# Altium integrated library NSC Communication Transceiver.IntLib: 31 symbols
Pins are listed as number, name and electrical type; pins without a type are passive.

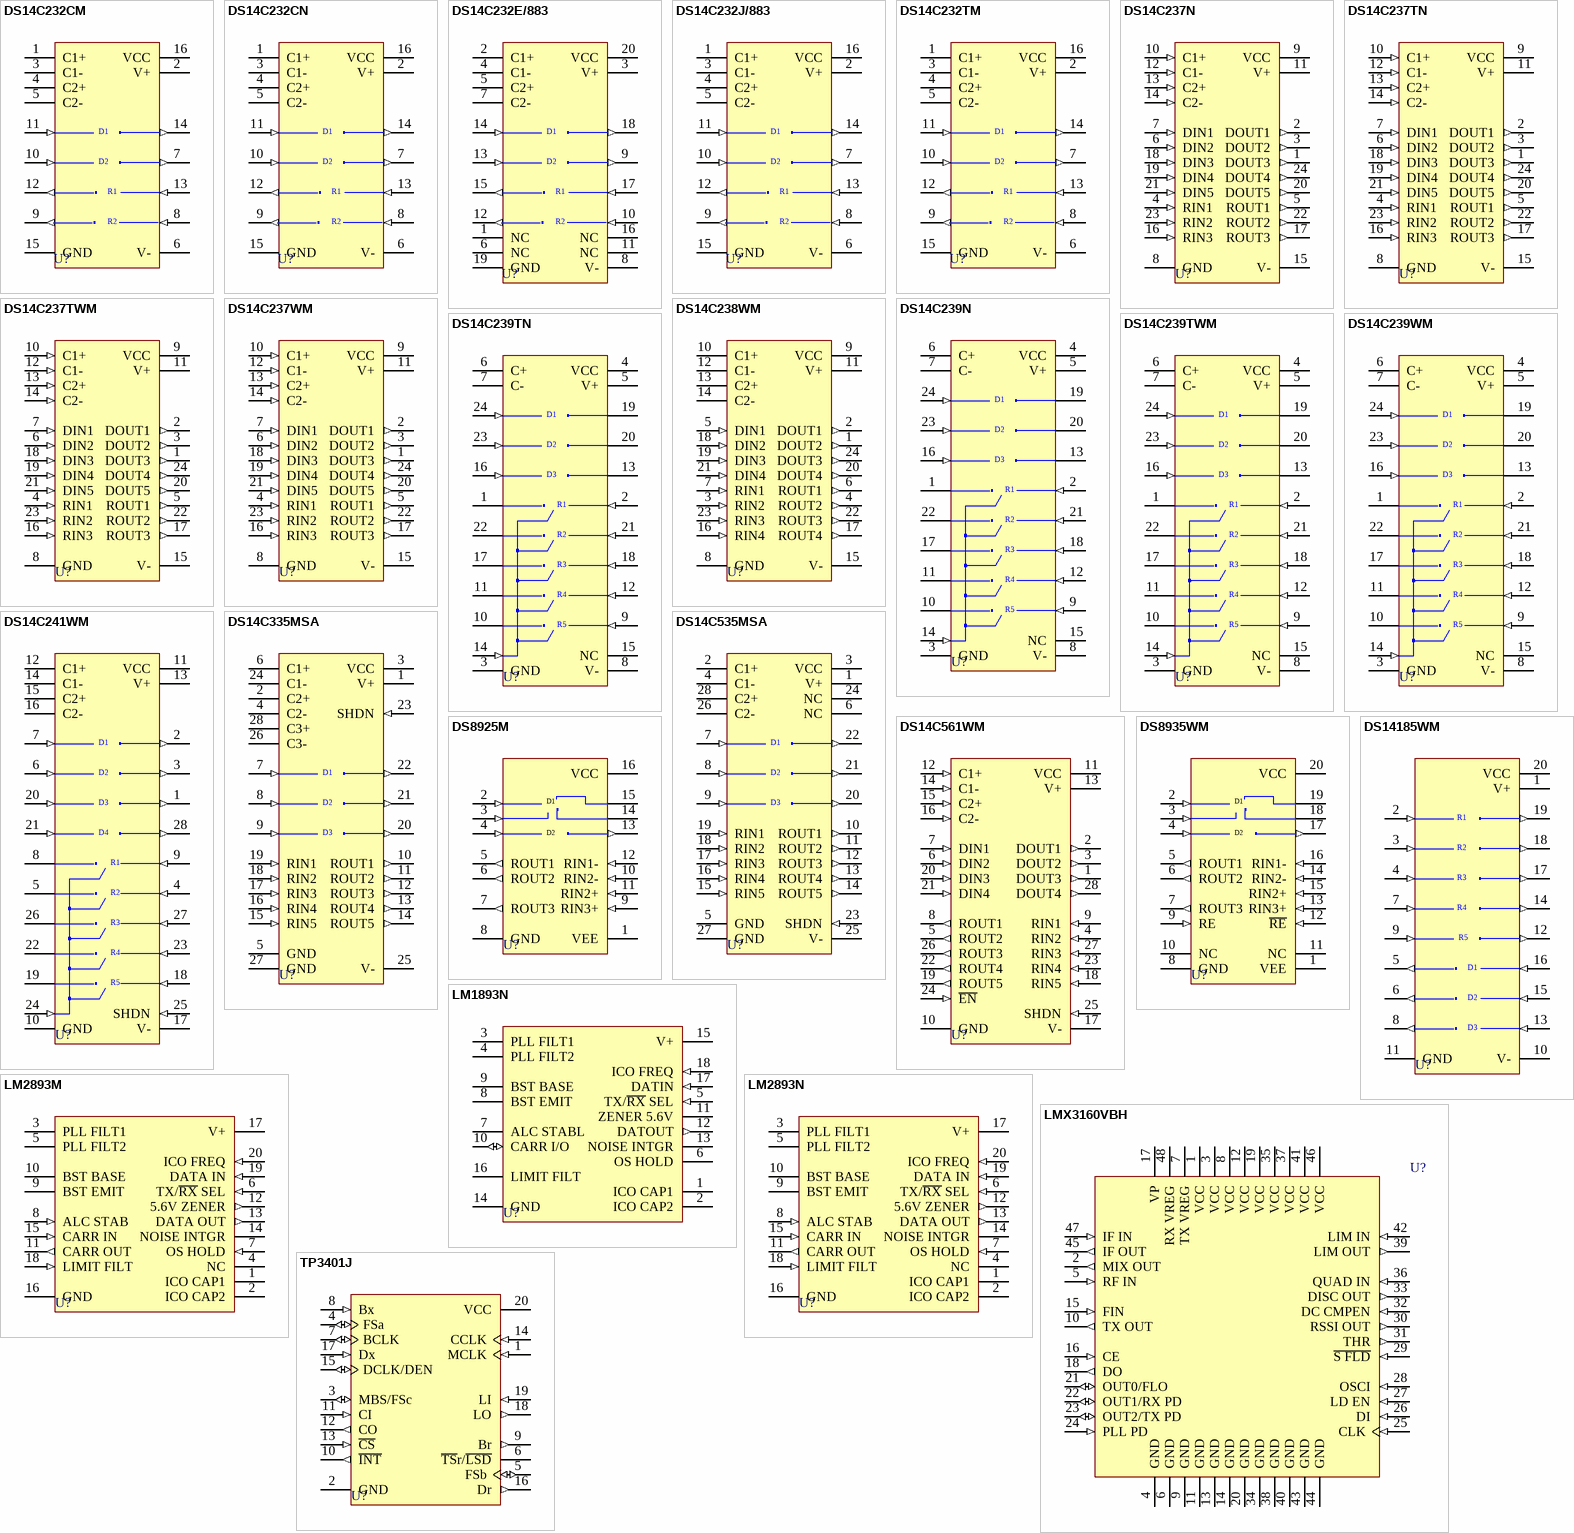
[diagram p0: symbols DS14C232CM to TP3401J]

## DS14C232CM
designator U?
Low-Power +5V Powered TIA/EIA-232 Dual Driver/Receiver; Published: 15-Apr-2002; LatestRevisionDate: 13-Apr-2006; LatestRevisionNote: IPC-7351 Footprint Added.; DatasheetVersion: Oct-1999; PackageVersion: 2000; PackageReference: M16A; Publisher: Altium Limited; PackageDescription: 16-Pin Small Outline Integrated Circuit 1.27 mm Pitch; Code_IPC: SOIC127P600-16; ComponentLink1Description: Manufacturer Link; ComponentLink1URL: http://www.national.com/; ComponentLink2Description: Datasheet; ComponentLink2URL: http://www.national.com/ds.cgi/DS/DS14C232.pdf; ComponentLink3Description: URL Link1; ComponentLink3URL: http://www.national.com/pf/DS/DS14C232.html
footprint M16A_N (SOIC, 16-Leads, Body 9.9x3.9mm, Pitch 1.27mm, IPC Medium Density)
footprint M16A_L (SOIC, 16-Leads, Body 9.9x3.9mm, Pitch 1.27mm, IPC High Density)
footprint M16A_M (SOIC, 16-Leads, Body 9.9x3.9mm, Pitch 1.27mm, IPC Low Density)
3D model M16A (16-Pin Small Outline Integrated Circuit 1.27 mm Pitch)
pins: 1 C1+, 2 V+ (power), 3 C1-, 4 C2+, 5 C2-, 6 V- (power), 7 DOUT (out), 8 RIN (in), 9 ROUT (out), 10 DIN (in), 11 DIN (in), 12 ROUT (out), 13 RIN (in), 14 DOUT (out), 15 GND (power), 16 VCC (power)
text: D1; D2; R1; R2

## DS14C232CN
designator U?
Low-Power +5V Powered TIA/EIA-232 Dual Driver/Receiver; Published: 15-Apr-2002; LatestRevisionDate: 06-Jun-2005; LatestRevisionNote: Stylized 3D Model Added.; DatasheetVersion: Oct-1999; PackageVersion: 2000; PackageReference: N16E; Publisher: Altium Limited; PackageDescription: DIP; 16 Leads; Row Spacing 7.62 mm; Pitch 2.54 mm; ComponentLink1Description: Manufacturer Link; ComponentLink1URL: http://www.national.com/; ComponentLink2Description: Datasheet; ComponentLink2URL: http://www.national.com/ds.cgi/DS/DS14C232.pdf; ComponentLink3Description: URL Link1; ComponentLink3URL: http://www.national.com/pf/DS/DS14C232.html
footprint N16E (DIP; 16 Leads; Row Spacing 7.62 mm; Pitch 2.54 mm)
3D model N16E (DIP; 16 Leads; Row Spacing 7.62 mm; Pitch 2.54 mm)
pins: 1 C1+, 2 V+ (power), 3 C1-, 4 C2+, 5 C2-, 6 V- (power), 7 DOUT (out), 8 RIN (in), 9 ROUT (out), 10 DIN (in), 11 DIN (in), 12 ROUT (out), 13 RIN (in), 14 DOUT (out), 15 GND (power), 16 VCC (power)
text: D1; D2; R1; R2

## DS14C232E/883
designator U?
Low-Power +5V Powered TIA/EIA-232 Dual Driver/Receiver; Published: 15-Apr-2002; DatasheetVersion: Oct-1999; PackageVersion: 2000; PackageReference: E20A; Publisher: Altium Limited; PackageDescription: Leadless Chip Carrier; 20 Terminals; Body 8.9 x 8.9 mm; ComponentLink1Description: Manufacturer Link; ComponentLink1URL: http://www.national.com/; ComponentLink2Description: Datasheet; ComponentLink2URL: http://www.national.com/ds.cgi/DS/DS14C232.pdf; ComponentLink3Description: URL Link1; ComponentLink3URL: http://www.national.com/pf/DS/DS14C232.html
footprint E20A (Leadless Chip Carrier; 20 Terminals; Body 8.9 x 8.9 mm)
pins: 1 NC, 2 C1+, 3 V+ (power), 4 C1-, 5 C2+, 6 NC, 7 C2-, 8 V- (power), 9 DOUT (out), 10 RIN (in), 11 NC, 12 ROUT (out), 13 DIN (in), 14 DIN (in), 15 ROUT (out), 16 NC, 17 RIN (in), 18 DOUT (out), 19 GND (power), 20 VCC (power)
text: D1; D2; R1; R2

## DS14C232J/883
designator U?
Low-Power +5V Powered TIA/EIA-232 Dual Driver/Receiver; Published: 15-Apr-2002; LatestRevisionDate: 06-Jun-2005; LatestRevisionNote: Stylized 3D Model Added.; DatasheetVersion: Oct-1999; PackageVersion: 2000; PackageReference: J16A; Publisher: Altium Limited; PackageDescription: DIP; 16 Leads; Row Spacing 7.62 mm; Pitch 2.54 mm; ComponentLink1Description: Manufacturer Link; ComponentLink1URL: http://www.national.com/; ComponentLink2Description: Datasheet; ComponentLink2URL: http://www.national.com/ds.cgi/DS/DS14C232.pdf; ComponentLink3Description: URL Link1; ComponentLink3URL: http://www.national.com/pf/DS/DS14C232.html
footprint J16A (DIP; 16 Leads; Row Spacing 7.62 mm; Pitch 2.54 mm)
3D model N16E (DIP; 16 Leads; Row Spacing 7.62 mm; Pitch 2.54 mm)
pins: 1 C1+, 2 V+ (power), 3 C1-, 4 C2+, 5 C2-, 6 V- (power), 7 DOUT (out), 8 RIN (in), 9 ROUT (out), 10 DIN (in), 11 DIN (in), 12 ROUT (out), 13 RIN (in), 14 DOUT (out), 15 GND (power), 16 VCC (power)
text: D1; D2; R1; R2

## DS14C232TM
designator U?
Low-Power +5V Powered TIA/EIA-232 Dual Driver/Receiver; Published: 15-Apr-2002; LatestRevisionDate: 13-Apr-2006; LatestRevisionNote: IPC-7351 Footprint Added.; DatasheetVersion: Oct-1999; PackageVersion: 2000; PackageReference: M16A; Publisher: Altium Limited; PackageDescription: 16-Pin Small Outline Integrated Circuit 1.27 mm Pitch; Code_IPC: SOIC127P600-16; ComponentLink1Description: Manufacturer Link; ComponentLink1URL: http://www.national.com/; ComponentLink2Description: Datasheet; ComponentLink2URL: http://www.national.com/ds.cgi/DS/DS14C232.pdf; ComponentLink3Description: URL Link1; ComponentLink3URL: http://www.national.com/pf/DS/DS14C232.html
footprint M16A_N (SOIC, 16-Leads, Body 9.9x3.9mm, Pitch 1.27mm, IPC Medium Density)
footprint M16A_L (SOIC, 16-Leads, Body 9.9x3.9mm, Pitch 1.27mm, IPC High Density)
footprint M16A_M (SOIC, 16-Leads, Body 9.9x3.9mm, Pitch 1.27mm, IPC Low Density)
3D model M16A (16-Pin Small Outline Integrated Circuit 1.27 mm Pitch)
pins: 1 C1+, 2 V+ (power), 3 C1-, 4 C2+, 5 C2-, 6 V- (power), 7 DOUT (out), 8 RIN (in), 9 ROUT (out), 10 DIN (in), 11 DIN (in), 12 ROUT (out), 13 RIN (in), 14 DOUT (out), 15 GND (power), 16 VCC (power)
text: D1; D2; R1; R2

## DS14C237N
designator U?
Single-Supply TIA/EIA-232 5 X 3 Driver/Receiver; Published: 15-Apr-2002; LatestRevisionDate: 06-Jun-2005; LatestRevisionNote: Stylized 3D Model Added.; DatasheetVersion: 1996; PackageVersion: 1996; PackageReference: NA24G; Publisher: Altium Limited; PackageDescription: DIP; 24 Leads; Row Spacing 7.62 mm; Pitch 2.54 mm; ComponentLink1Description: Manufacturer Link; ComponentLink1URL: http://www.national.com/
footprint NA24G (DIP; 24 Leads; Row Spacing 7.62 mm; Pitch 2.54 mm)
3D model NA24G (DIP; 24 Leads; Row Spacing 7.62 mm; Pitch 2.54 mm)
pins: 1 DOUT3 (out), 2 DOUT1 (out), 3 DOUT2 (out), 4 RIN1 (in), 5 ROUT1 (out), 6 DIN2 (in), 7 DIN1 (in), 8 GND (power), 9 VCC (power), 10 C1+ (in), 11 V+ (power), 12 C1- (in), 13 C2+ (in), 14 C2- (in), 15 V- (power), 16 RIN3 (in), 17 ROUT3 (out), 18 DIN3 (in), 19 DIN4 (in), 20 DOUT5 (out), 21 DIN5 (in), 22 ROUT2 (out), 23 RIN2 (in), 24 DOUT4 (out)

## DS14C237TN
designator U?
Single-Supply TIA/EIA-232 5 X 3 Driver/Receiver; Published: 15-Apr-2002; LatestRevisionDate: 06-Jun-2005; LatestRevisionNote: Stylized 3D Model Added.; DatasheetVersion: 1996; PackageVersion: 1996; PackageReference: NA24G; Publisher: Altium Limited; PackageDescription: DIP; 24 Leads; Row Spacing 7.62 mm; Pitch 2.54 mm; ComponentLink1Description: Manufacturer Link; ComponentLink1URL: http://www.national.com/
footprint NA24G (DIP; 24 Leads; Row Spacing 7.62 mm; Pitch 2.54 mm)
3D model NA24G (DIP; 24 Leads; Row Spacing 7.62 mm; Pitch 2.54 mm)
pins: 1 DOUT3 (out), 2 DOUT1 (out), 3 DOUT2 (out), 4 RIN1 (in), 5 ROUT1 (out), 6 DIN2 (in), 7 DIN1 (in), 8 GND (power), 9 VCC (power), 10 C1+ (in), 11 V+ (power), 12 C1- (in), 13 C2+ (in), 14 C2- (in), 15 V- (power), 16 RIN3 (in), 17 ROUT3 (out), 18 DIN3 (in), 19 DIN4 (in), 20 DOUT5 (out), 21 DIN5 (in), 22 ROUT2 (out), 23 RIN2 (in), 24 DOUT4 (out)

## DS14C237TWM
designator U?
Single-Supply TIA/EIA-232 5 X 3 Driver/Receiver; ComponentAvailability: Obsolete; Published: 15-Apr-2002; LatestRevisionDate: 13-Apr-2006; LatestRevisionNote: IPC-7351 Footprint Added.; DatasheetVersion: 1996; PackageVersion: 2000; PackageReference: M24B; Publisher: Altium Limited; PackageDescription: 24-Pin Small Outline Integrated Circuit 1.27 mm Pitch; ComponentLink1Description: Manufacturer Link; ComponentLink1URL: http://www.national.com/; ComponentLink2Description: Discontinuation Notice; ComponentLink2URL: http://www.national.com/obs/obsolescence.txt
footprint M24B_N (SOIC, 24-Leads, Body 15.4x7.5mm, Pitch 1.27mm, IPC Medium Density)
footprint M24B_L (SOIC, 24-Leads, Body 15.4x7.5mm, Pitch 1.27mm, IPC High Density)
footprint M24B_M (SOIC, 24-Leads, Body 15.4x7.5mm, Pitch 1.27mm, IPC Low Density)
3D model M24B (24-Pin Small Outline Integrated Circuit 1.27 mm Pitch)
pins: 1 DOUT3 (out), 2 DOUT1 (out), 3 DOUT2 (out), 4 RIN1 (in), 5 ROUT1 (out), 6 DIN2 (in), 7 DIN1 (in), 8 GND (power), 9 VCC (power), 10 C1+ (in), 11 V+ (power), 12 C1- (in), 13 C2+ (in), 14 C2- (in), 15 V- (power), 16 RIN3 (in), 17 ROUT3 (out), 18 DIN3 (in), 19 DIN4 (in), 20 DOUT5 (out), 21 DIN5 (in), 22 ROUT2 (out), 23 RIN2 (in), 24 DOUT4 (out)

## DS14C237WM
designator U?
Single-Supply TIA/EIA-232 5 X 3 Driver/Receiver; ComponentAvailability: Obsolete; Published: 15-Apr-2002; LatestRevisionDate: 13-Apr-2006; LatestRevisionNote: IPC-7351 Footprint Added.; DatasheetVersion: 1996; PackageVersion: 2000; PackageReference: M24B; Publisher: Altium Limited; PackageDescription: 24-Pin Small Outline Integrated Circuit 1.27 mm Pitch; ComponentLink1Description: Manufacturer Link; ComponentLink1URL: http://www.national.com/; ComponentLink2Description: Discontinuation Notice; ComponentLink2URL: http://www.national.com/obs/obsolescence.txt
footprint M24B_N (SOIC, 24-Leads, Body 15.4x7.5mm, Pitch 1.27mm, IPC Medium Density)
footprint M24B_L (SOIC, 24-Leads, Body 15.4x7.5mm, Pitch 1.27mm, IPC High Density)
footprint M24B_M (SOIC, 24-Leads, Body 15.4x7.5mm, Pitch 1.27mm, IPC Low Density)
3D model M24B (24-Pin Small Outline Integrated Circuit 1.27 mm Pitch)
pins: 1 DOUT3 (out), 2 DOUT1 (out), 3 DOUT2 (out), 4 RIN1 (in), 5 ROUT1 (out), 6 DIN2 (in), 7 DIN1 (in), 8 GND (power), 9 VCC (power), 10 C1+ (in), 11 V+ (power), 12 C1- (in), 13 C2+ (in), 14 C2- (in), 15 V- (power), 16 RIN3 (in), 17 ROUT3 (out), 18 DIN3 (in), 19 DIN4 (in), 20 DOUT5 (out), 21 DIN5 (in), 22 ROUT2 (out), 23 RIN2 (in), 24 DOUT4 (out)

## DS14C238WM
designator U?
Single-Supply TIA/EIA-232 4 X 4 Driver/Receiver; Published: 15-Apr-2002; LatestRevisionDate: 13-Apr-2006; LatestRevisionNote: IPC-7351 Footprint Added.; DatasheetVersion: May-1999; PackageVersion: 2000; PackageReference: M24B; Publisher: Altium Limited; PackageDescription: 24-Pin Small Outline Integrated Circuit 1.27 mm Pitch; ComponentLink1Description: Manufacturer Link; ComponentLink1URL: http://www.national.com/; ComponentLink2Description: Datasheet; ComponentLink2URL: http://www.national.com/ds.cgi/DS/DS14C238.pdf; ComponentLink3Description: URL Link1; ComponentLink3URL: http://www.national.com/pf/DS/DS14C238.html
footprint M24B_N (SOIC, 24-Leads, Body 15.4x7.5mm, Pitch 1.27mm, IPC Medium Density)
footprint M24B_L (SOIC, 24-Leads, Body 15.4x7.5mm, Pitch 1.27mm, IPC High Density)
footprint M24B_M (SOIC, 24-Leads, Body 15.4x7.5mm, Pitch 1.27mm, IPC Low Density)
3D model M24B (24-Pin Small Outline Integrated Circuit 1.27 mm Pitch)
pins: 1 DOUT2 (out), 2 DOUT1 (out), 3 RIN2 (in), 4 ROUT2 (out), 5 DIN1 (in), 6 ROUT1 (out), 7 RIN1 (in), 8 GND (power), 9 VCC (power), 10 C1+, 11 V+ (power), 12 C1-, 13 C2+, 14 C2-, 15 V- (power), 16 RIN4 (in), 17 ROUT4 (out), 18 DIN2 (in), 19 DIN3 (in), 20 DOUT4 (out), 21 DIN4 (in), 22 ROUT3 (out), 23 RIN3 (in), 24 DOUT3 (out)

## DS14C239N
designator U?
Dual-Supply TIA/EIA-232 3 X 5 Driver/Receiver; ComponentAvailability: Obsolete; Published: 15-Apr-2002; LatestRevisionDate: 06-Jun-2005; LatestRevisionNote: Stylized 3D Model Added.; DatasheetVersion: 1996; PackageVersion: 1996; PackageReference: NA24G; Publisher: Altium Limited; PackageDescription: DIP; 24 Leads; Row Spacing 7.62 mm; Pitch 2.54 mm; ComponentLink1Description: Manufacturer Link; ComponentLink1URL: http://www.national.com/; ComponentLink2Description: Discontinuation Notice; ComponentLink2URL: http://www.national.com/obs/obsolescence.txt
footprint NA24G (DIP; 24 Leads; Row Spacing 7.62 mm; Pitch 2.54 mm)
3D model NA24G (DIP; 24 Leads; Row Spacing 7.62 mm; Pitch 2.54 mm)
pins: 1 ROUT (hiz), 2 RIN (in), 3 GND (power), 4 VCC (power), 5 V+ (power), 6 C+, 7 C-, 8 V- (power), 9 RIN (in), 10 ROUT (hiz), 11 ROUT (hiz), 12 RIN (in), 13 DOUT (hiz), 14 ~{EN} (in), 15 NC, 16 DIN (in), 17 ROUT (hiz), 18 RIN (in), 19 DOUT (hiz), 20 DOUT (hiz), 21 RIN (in), 22 ROUT (hiz), 23 DIN (in), 24 DIN (in)
text: D1; D2; D3; R1; R2; R3; R4; R5

## DS14C239TN
designator U?
Dual-Supply TIA/EIA-232 3 X 5 Driver/Receiver; ComponentAvailability: Obsolete; Published: 15-Apr-2002; LatestRevisionDate: 06-Jun-2005; LatestRevisionNote: Stylized 3D Model Added.; DatasheetVersion: 1996; PackageVersion: 1996; PackageReference: NA24G; Publisher: Altium Limited; PackageDescription: DIP; 24 Leads; Row Spacing 7.62 mm; Pitch 2.54 mm; ComponentLink1Description: Manufacturer Link; ComponentLink1URL: http://www.national.com/; ComponentLink2Description: Discontinuation Notice; ComponentLink2URL: http://www.national.com/obs/obsolescence.txt
footprint NA24G (DIP; 24 Leads; Row Spacing 7.62 mm; Pitch 2.54 mm)
3D model NA24G (DIP; 24 Leads; Row Spacing 7.62 mm; Pitch 2.54 mm)
pins: 1 ROUT (hiz), 2 RIN (in), 3 GND (power), 4 VCC (power), 5 V+ (power), 6 C+, 7 C-, 8 V- (power), 9 RIN (in), 10 ROUT (hiz), 11 ROUT (hiz), 12 RIN (in), 13 DOUT (hiz), 14 ~{EN} (in), 15 NC, 16 DIN (in), 17 ROUT (hiz), 18 RIN (in), 19 DOUT (hiz), 20 DOUT (hiz), 21 RIN (in), 22 ROUT (hiz), 23 DIN (in), 24 DIN (in)
text: D1; D2; D3; R1; R2; R3; R4; R5

## DS14C239TWM
designator U?
Dual-Supply TIA/EIA-232 3 X 5 Driver/Receiver; ComponentAvailability: Obsolete; Published: 15-Apr-2002; LatestRevisionDate: 13-Apr-2006; LatestRevisionNote: IPC-7351 Footprint Added.; DatasheetVersion: 1996; PackageVersion: 2000; PackageReference: M24B; Publisher: Altium Limited; PackageDescription: 24-Pin Small Outline Integrated Circuit 1.27 mm Pitch; ComponentLink1Description: Manufacturer Link; ComponentLink1URL: http://www.national.com/; ComponentLink2Description: Discontinuation Notice; ComponentLink2URL: http://www.national.com/obs/obsolescence.txt
footprint M24B_N (SOIC, 24-Leads, Body 15.4x7.5mm, Pitch 1.27mm, IPC Medium Density)
footprint M24B_L (SOIC, 24-Leads, Body 15.4x7.5mm, Pitch 1.27mm, IPC High Density)
footprint M24B_M (SOIC, 24-Leads, Body 15.4x7.5mm, Pitch 1.27mm, IPC Low Density)
3D model M24B (24-Pin Small Outline Integrated Circuit 1.27 mm Pitch)
pins: 1 ROUT (hiz), 2 RIN (in), 3 GND (power), 4 VCC (power), 5 V+ (power), 6 C+, 7 C-, 8 V- (power), 9 RIN (in), 10 ROUT (hiz), 11 ROUT (hiz), 12 RIN (in), 13 DOUT (hiz), 14 ~{EN} (in), 15 NC, 16 DIN (in), 17 ROUT (hiz), 18 RIN (in), 19 DOUT (hiz), 20 DOUT (hiz), 21 RIN (in), 22 ROUT (hiz), 23 DIN (in), 24 DIN (in)
text: D1; D2; D3; R1; R2; R3; R4; R5

## DS14C239WM
designator U?
Dual-Supply TIA/EIA-232 3 X 5 Driver/Receiver; ComponentAvailability: Obsolete; Published: 15-Apr-2002; LatestRevisionDate: 13-Apr-2006; LatestRevisionNote: IPC-7351 Footprint Added.; DatasheetVersion: 1996; PackageVersion: 2000; PackageReference: M24B; Publisher: Altium Limited; PackageDescription: 24-Pin Small Outline Integrated Circuit 1.27 mm Pitch; ComponentLink1Description: Manufacturer Link; ComponentLink1URL: http://www.national.com/; ComponentLink2Description: Discontinuation Notice; ComponentLink2URL: http://www.national.com/obs/obsolescence.txt
footprint M24B_N (SOIC, 24-Leads, Body 15.4x7.5mm, Pitch 1.27mm, IPC Medium Density)
footprint M24B_L (SOIC, 24-Leads, Body 15.4x7.5mm, Pitch 1.27mm, IPC High Density)
footprint M24B_M (SOIC, 24-Leads, Body 15.4x7.5mm, Pitch 1.27mm, IPC Low Density)
3D model M24B (24-Pin Small Outline Integrated Circuit 1.27 mm Pitch)
pins: 1 ROUT (hiz), 2 RIN (in), 3 GND (power), 4 VCC (power), 5 V+ (power), 6 C+, 7 C-, 8 V- (power), 9 RIN (in), 10 ROUT (hiz), 11 ROUT (hiz), 12 RIN (in), 13 DOUT (hiz), 14 ~{EN} (in), 15 NC, 16 DIN (in), 17 ROUT (hiz), 18 RIN (in), 19 DOUT (hiz), 20 DOUT (hiz), 21 RIN (in), 22 ROUT (hiz), 23 DIN (in), 24 DIN (in)
text: D1; D2; D3; R1; R2; R3; R4; R5

## DS14C241WM
designator U?
Single-Supply TIA/EIA-232 4 X 5 Driver/Receiver; Published: 15-Apr-2002; LatestRevisionDate: 13-Apr-2006; LatestRevisionNote: IPC-7351 Footprint Added.; DatasheetVersion: May-1998; PackageVersion: 2000; PackageReference: M28B; Publisher: Altium Limited; PackageDescription: 28-Pin Small Outline Integrated Circuit 1.27 mm Pitch; ComponentLink1Description: Manufacturer Link; ComponentLink1URL: http://www.national.com/; ComponentLink2Description: Datasheet; ComponentLink2URL: http://www.national.com/ds.cgi/DS/DS14C241.pdf; ComponentLink3Description: URL Link1; ComponentLink3URL: http://www.national.com/pf/DS/DS14C241.html
footprint M28B_N (SOIC, 28-Leads, Body 17.9x7.5mm, Pitch 1.27mm, IPC Medium Density)
footprint M28B_L (SOIC, 28-Leads, Body 17.9x7.5mm, Pitch 1.27mm, IPC High Density)
footprint M28B_M (SOIC, 28-Leads, Body 17.9x7.5mm, Pitch 1.27mm, IPC Low Density)
3D model M28B (28-Pin Small Outline Integrated Circuit 1.27 mm Pitch)
pins: 1 DOUT (out), 2 DOUT (out), 3 DOUT (out), 4 RIN (in), 5 ROUT (hiz), 6 DIN (in), 7 DIN (in), 8 ROUT (hiz), 9 RIN (in), 10 GND (power), 11 VCC (power), 12 C1+, 13 V+ (power), 14 C1-, 15 C2+, 16 C2-, 17 V- (power), 18 RIN (in), 19 ROUT (hiz), 20 DIN (in), 21 DIN (in), 22 ROUT (hiz), 23 RIN (in), 24 ~{EN} (in), 25 SHDN (in), 26 ROUT (hiz), 27 RIN (in), 28 DOUT (out)
text: D1; D2; D3; D4; R1; R2; R3; R4; R5

## DS14C335MSA
designator U?
+3.3V Supply TIA/EIA-232 3 X 5 Driver/Receiver; Published: 15-Apr-2002; LatestRevisionDate: 06-Jun-2005; LatestRevisionNote: Stylized 3D Model Added.; DatasheetVersion: Mar-2000; PackageVersion: 2000; PackageReference: MSA28; Publisher: Altium Limited; PackageDescription: SSOP; 28 Leads; Body Width 5.3 mm; Pitch 0.65 mm; ComponentLink1Description: Manufacturer Link; ComponentLink1URL: http://www.national.com/; ComponentLink2Description: Datasheet; ComponentLink2URL: http://www.national.com/ds.cgi/DS/DS14C335.pdf; ComponentLink3Description: URL Link1; ComponentLink3URL: http://www.national.com/pf/DS/DS14C335.html
footprint MSA28 (SSOP; 28 Leads; Body Width 5.3 mm; Pitch 0.65 mm)
3D model MSA28 (SSOP; 28 Leads; Body Width 5.3 mm; Pitch 0.65 mm)
pins: 1 V+ (power), 2 C2+, 3 VCC (power), 4 C2-, 5 GND (power), 6 C1+, 7 DIN (in), 8 DIN (in), 9 DIN (in), 10 ROUT1 (out), 11 ROUT2 (out), 12 ROUT3 (out), 13 ROUT4 (out), 14 ROUT5 (out), 15 RIN5 (in), 16 RIN4 (in), 17 RIN3 (in), 18 RIN2 (in), 19 RIN1 (in), 20 DOUT (out), 21 DOUT (out), 22 DOUT (out), 23 SHDN (in), 24 C1-, 25 V- (power), 26 C3-, 27 GND (power), 28 C3+
text: D1; D2; D3

## DS14C535MSA
designator U?
+5V Supply EIA/TIA-232 3 X 5 Driver/Receiver; Published: 15-Apr-2002; LatestRevisionDate: 06-Jun-2005; LatestRevisionNote: Stylized 3D Model Added.; DatasheetVersion: May-1998; PackageVersion: 2000; PackageReference: MSA28; Publisher: Altium Limited; PackageDescription: SSOP; 28 Leads; Body Width 5.3 mm; Pitch 0.65 mm; ComponentLink1Description: Manufacturer Link; ComponentLink1URL: http://www.national.com/; ComponentLink2Description: Datasheet; ComponentLink2URL: http://www.national.com/ds.cgi/DS/DS14C535.pdf; ComponentLink3Description: URL Link1; ComponentLink3URL: http://www.national.com/pf/DS/DS14C535.html
footprint MSA28 (SSOP; 28 Leads; Body Width 5.3 mm; Pitch 0.65 mm)
3D model MSA28 (SSOP; 28 Leads; Body Width 5.3 mm; Pitch 0.65 mm)
pins: 1 V+ (power), 2 C1+, 3 VCC (power), 4 C1-, 5 GND (power), 6 NC, 7 DIN (in), 8 DIN (in), 9 DIN (in), 10 ROUT1 (out), 11 ROUT2 (out), 12 ROUT3 (out), 13 ROUT4 (out), 14 ROUT5 (out), 15 RIN5 (in), 16 RIN4 (in), 17 RIN3 (in), 18 RIN2 (in), 19 RIN1 (in), 20 DOUT (out), 21 DOUT (out), 22 DOUT (out), 23 SHDN (in), 24 NC, 25 V- (power), 26 C2-, 27 GND (power), 28 C2+
text: D1; D2; D3

## DS14C561WM
designator U?
+3.3V Powered 4 X 5 Driver/Receiver; ComponentAvailability: Obsolete; Published: 15-Apr-2002; LatestRevisionDate: 13-Apr-2006; LatestRevisionNote: IPC-7351 Footprint Added.; DatasheetVersion: Aug-1992; PackageVersion: 2000; PackageReference: M28B; Publisher: Altium Limited; PackageDescription: 28-Pin Small Outline Integrated Circuit 1.27 mm Pitch; ComponentLink1Description: Manufacturer Link; ComponentLink1URL: http://www.national.com/; ComponentLink2Description: Discontinuation Notice; ComponentLink2URL: http://www.national.com/obs/obsolescence.txt
footprint M28B_N (SOIC, 28-Leads, Body 17.9x7.5mm, Pitch 1.27mm, IPC Medium Density)
footprint M28B_L (SOIC, 28-Leads, Body 17.9x7.5mm, Pitch 1.27mm, IPC High Density)
footprint M28B_M (SOIC, 28-Leads, Body 17.9x7.5mm, Pitch 1.27mm, IPC Low Density)
3D model M28B (28-Pin Small Outline Integrated Circuit 1.27 mm Pitch)
pins: 1 DOUT3 (out), 2 DOUT1 (out), 3 DOUT2 (out), 4 RIN2 (in), 5 ROUT2 (out), 6 DIN2 (in), 7 DIN1 (in), 8 ROUT1 (out), 9 RIN1 (in), 10 GND (power), 11 VCC (power), 12 C1+ (in), 13 V+ (power), 14 C1- (in), 15 C2+ (in), 16 C2- (in), 17 V- (power), 18 RIN5 (in), 19 ROUT5 (out), 20 DIN3 (in), 21 DIN4 (in), 22 ROUT4 (out), 23 RIN4 (in), 24 ~{EN} (in), 25 SHDN (in), 26 ROUT3 (out), 27 RIN3 (in), 28 DOUT4 (out)

## DS8925M
designator U?
LocalTalk Dual Driver/Triple Receiver; ComponentAvailability: Obsolete; Published: 15-Apr-2002; LatestRevisionDate: 13-Apr-2006; LatestRevisionNote: IPC-7351 Footprint Added.; DatasheetVersion: Dec-1998; PackageVersion: 2000; PackageReference: M16A; Publisher: Altium Limited; PackageDescription: 16-Pin Small Outline Integrated Circuit 1.27 mm Pitch; Code_IPC: SOIC127P600-16; ComponentLink1Description: Manufacturer Link; ComponentLink1URL: http://www.national.com/; ComponentLink2Description: Datasheet; ComponentLink2URL: http://www.national.com/ds.cgi/DS/DS8925.pdf; ComponentLink3Description: Discontinuation Notice; ComponentLink3URL: http://www.national.com/obs/obsolescence.txt; ComponentLink4Description: URL Link1; ComponentLink4URL: http://www.national.com/pf/DS/DS8925.html
footprint M16A_N (SOIC, 16-Leads, Body 9.9x3.9mm, Pitch 1.27mm, IPC Medium Density)
footprint M16A_L (SOIC, 16-Leads, Body 9.9x3.9mm, Pitch 1.27mm, IPC High Density)
footprint M16A_M (SOIC, 16-Leads, Body 9.9x3.9mm, Pitch 1.27mm, IPC Low Density)
3D model M16A (16-Pin Small Outline Integrated Circuit 1.27 mm Pitch)
pins: 1 VEE (power), 2 DIN (in), 3 ~{EN} (in), 4 DIN (in), 5 ROUT1 (out), 6 ROUT2 (out), 7 ROUT3 (out), 8 GND (power), 9 RIN3+ (in), 10 RIN2- (in), 11 RIN2+ (in), 12 RIN1- (in), 13 DOUT (out), 14 ~{DOUT} (hiz), 15 DOUT (hiz), 16 VCC (power)
text: D1; D2

## DS8935WM
designator U?
LocalTalk Dual Driver/Triple Receiver; ComponentAvailability: Obsolete; Published: 15-Apr-2002; LatestRevisionDate: 13-Apr-2006; LatestRevisionNote: IPC-7351 Footprint Added.; DatasheetVersion: Feb-1996; PackageVersion: 2000; PackageReference: M20B; Publisher: Altium Limited; PackageDescription: 20-Pin Small Outline Integrated Circuit 1.27 mm Pitch; Code_JEDEC: MS-013-AC; Code_IPC: SOIC127P1030-20; ComponentLink1Description: Manufacturer Link; ComponentLink1URL: http://www.national.com/; ComponentLink2Description: Datasheet; ComponentLink2URL: http://www.national.com/ds.cgi/DS/DS8935.pdf; ComponentLink3Description: Discontinuation Notice; ComponentLink3URL: http://www.national.com/obs/obsolescence.txt; ComponentLink4Description: URL Link1; ComponentLink4URL: http://www.national.com/pf/DS/DS8935.html
footprint M20B_N (SOIC, 20-Leads, Body 12.8x7.5mm, Pitch 1.27mm, IPC Medium Density)
footprint M20B_L (SOIC, 20-Leads, Body 12.8x7.5mm, Pitch 1.27mm, IPC High Density)
footprint M20B_M (SOIC, 20-Leads, Body 12.8x7.5mm, Pitch 1.27mm, IPC Low Density)
3D model M20B (20-Pin Small Outline Integrated Circuit 1.27 mm Pitch)
pins: 1 VEE (power), 2 DIN (in), 3 ~{EN} (in), 4 DIN (in), 5 ROUT1 (out), 6 ROUT2 (out), 7 ROUT3 (out), 8 GND (power), 9 RE (in), 10 NC, 11 NC, 12 ~{RE} (in), 13 RIN3+ (in), 14 RIN2- (in), 15 RIN2+ (in), 16 RIN1- (in), 17 DOUT (out), 18 ~{DOUT} (hiz), 19 DOUT (hiz), 20 VCC (power)
text: D1; D2

## DS14185WM
designator U?
3 Driver x 5 Receiver; Published: 15-Apr-2002; LatestRevisionDate: 13-Apr-2006; LatestRevisionNote: IPC-7351 Footprint Added.; DatasheetVersion: Apr-1999; PackageVersion: 2000; PackageReference: M20B; Publisher: Altium Limited; PackageDescription: 20-Pin Small Outline Integrated Circuit 1.27 mm Pitch; Code_JEDEC: MS-013-AC; Code_IPC: SOIC127P1030-20; ComponentLink1Description: Manufacturer Link; ComponentLink1URL: http://www.national.com/; ComponentLink2Description: Datasheet; ComponentLink2URL: http://www.national.com/ds.cgi/DS/DS14185.pdf; ComponentLink3Description: URL Link1; ComponentLink3URL: http://www.national.com/pf/DS/DS14185.html
footprint M20B_N (SOIC, 20-Leads, Body 12.8x7.5mm, Pitch 1.27mm, IPC Medium Density)
footprint M20B_L (SOIC, 20-Leads, Body 12.8x7.5mm, Pitch 1.27mm, IPC High Density)
footprint M20B_M (SOIC, 20-Leads, Body 12.8x7.5mm, Pitch 1.27mm, IPC Low Density)
3D model M20B (20-Pin Small Outline Integrated Circuit 1.27 mm Pitch)
pins: 1 V+ (power), 2 RIN1 (in), 3 RIN2 (in), 4 RIN3 (in), 5 DOUT1 (out), 6 DOUT2 (out), 7 RIN4 (in), 8 DOUT3 (out), 9 RIN5 (in), 10 V- (power), 11 GND (power), 12 ROUT5 (out), 13 DIN3 (in), 14 ROUT4 (out), 15 DIN2 (in), 16 DIN1 (in), 17 ROUT3 (out), 18 ROUT2 (out), 19 ROUT1 (out), 20 VCC (power)
text: R1; R2; R3; R4; R5; D1; D2; D3

## LM1893N
designator U?
Carrier-Current Transceiver; ComponentAvailability: Obsolete; Published: 15-Apr-2002; LatestRevisionDate: 06-Jun-2005; LatestRevisionNote: Stylized 3D Model Added.; DatasheetVersion: Apr-1995; PackageVersion: 1995; PackageReference: N18A; Publisher: Altium Limited; PackageDescription: DIP; 18 Leads; Row Spacing 7.62 mm; Pitch 2.54 mm; Code_JEDEC: MS-001-BC; ComponentLink1Description: Manufacturer Link; ComponentLink1URL: http://www.national.com/; ComponentLink2Description: Discontinuation Notice; ComponentLink2URL: http://www.national.com/obs/obsolescence.txt; ComponentLink3Description: URL Link1; ComponentLink3URL: http://www.national.com/pf/LM/LM1893.html
footprint N18A (DIP; 18 Leads; Row Spacing 7.62 mm; Pitch 2.54 mm)
3D model N18A (DIP; 18 Leads; Row Spacing 7.62 mm; Pitch 2.54 mm)
pins: 1 ICO CAP1, 2 ICO CAP2, 3 PLL FILT1, 4 PLL FILT2, 5 TX/~{RX} SEL (in), 6 OS HOLD, 7 ALC STABL, 8 BST EMIT, 9 BST BASE, 10 CARR I/O (io), 11 ZENER 5.6V, 12 DATOUT (out), 13 NOISE INTGR, 14 GND (power), 15 V+ (power), 16 LIMIT FILT, 17 DATIN (in), 18 ICO FREQ (in)

## LM2893M
designator U?
Carrier-Current Transceiver; ComponentAvailability: Obsolete; Published: 15-Apr-2002; LatestRevisionDate: 13-Apr-2006; LatestRevisionNote: IPC-7351 Footprint Added.; DatasheetVersion: Apr-1995; PackageVersion: 2000; PackageReference: M20B; Publisher: Altium Limited; PackageDescription: 20-Pin Small Outline Integrated Circuit 1.27 mm Pitch; Code_JEDEC: MS-013-AC; Code_IPC: SOIC127P1030-20; ComponentLink1Description: Manufacturer Link; ComponentLink1URL: http://www.national.com/; ComponentLink2Description: Discontinuation Notice; ComponentLink2URL: http://www.national.com/obs/obsolescence.txt; ComponentLink3Description: URL Link1; ComponentLink3URL: http://www.national.com/pf/LM/LM2893.html
footprint M20B_N (SOIC, 20-Leads, Body 12.8x7.5mm, Pitch 1.27mm, IPC Medium Density)
footprint M20B_L (SOIC, 20-Leads, Body 12.8x7.5mm, Pitch 1.27mm, IPC High Density)
footprint M20B_M (SOIC, 20-Leads, Body 12.8x7.5mm, Pitch 1.27mm, IPC Low Density)
3D model M20B (20-Pin Small Outline Integrated Circuit 1.27 mm Pitch)
pins: 1 ICO CAP1, 2 ICO CAP2, 3 PLL FILT1, 4 NC, 5 PLL FILT2, 6 TX/~{RX} SEL (in), 7 OS HOLD (in), 8 ALC STAB (in), 9 BST EMIT, 10 BST BASE, 11 CARR OUT (out), 12 5.6V ZENER (out), 13 DATA OUT (out), 14 NOISE INTGR, 15 CARR IN (in), 16 GND (power), 17 V+ (power), 18 LIMIT FILT (in), 19 DATA IN (in), 20 ICO FREQ (in)

## LM2893N
designator U?
Carrier-Current Transceiver; ComponentAvailability: Obsolete; Published: 15-Apr-2002; LatestRevisionDate: 06-Jun-2005; LatestRevisionNote: Stylized 3D Model Added.; DatasheetVersion: Apr-1995; PackageVersion: 2000; PackageReference: N20A; Publisher: Altium Limited; PackageDescription: DIP; 20 Leads; Row Spacing 7.62 mm; Pitch 2.54 mm; Code_JEDEC: MS-001-AD; ComponentLink1Description: Manufacturer Link; ComponentLink1URL: http://www.national.com/; ComponentLink2Description: Discontinuation Notice; ComponentLink2URL: http://www.national.com/obs/obsolescence.txt; ComponentLink3Description: URL Link1; ComponentLink3URL: http://www.national.com/pf/LM/LM2893.html
footprint N20A (DIP; 20 Leads; Row Spacing 7.62 mm; Pitch 2.54 mm)
3D model N20A (DIP; 20 Leads; Row Spacing 7.62 mm; Pitch 2.54 mm)
pins: 1 ICO CAP1, 2 ICO CAP2, 3 PLL FILT1, 4 NC, 5 PLL FILT2, 6 TX/~{RX} SEL (in), 7 OS HOLD (in), 8 ALC STAB (in), 9 BST EMIT, 10 BST BASE, 11 CARR OUT (out), 12 5.6V ZENER (out), 13 DATA OUT (out), 14 NOISE INTGR, 15 CARR IN (in), 16 GND (power), 17 V+ (power), 18 LIMIT FILT (in), 19 DATA IN (in), 20 ICO FREQ (in)

## LMX3160VBH
designator U?
Single Chip Radio Transceiver; Published: 15-Apr-2002; LatestRevisionDate: 13-Apr-2006; LatestRevisionNote: IPC-7351 Footprint Added.; DatasheetVersion: 1995; PackageReference: VBH48A; Publisher: Altium Limited; PackageDescription: 48-Pin Thin Quad Flat Pack 0.5 mm Pitch; ComponentLink1Description: Manufacturer Link; ComponentLink1URL: http://www.national.com/
footprint VBH48A_N (Thin QFP, 48-Leads, Body 7x7mm, Pitch 0.5mm, IPC Medium Density)
footprint VBH48A_L (Thin QFP, 48-Leads, Body 7x7mm, Pitch 0.5mm, IPC High Density)
footprint VBH48A_M (Thin QFP, 48-Leads, Body 7x7mm, Pitch 0.5mm, IPC Low Density)
3D model LMX3160-VBH48A (48-Pin Thin Quad Flat Pack 0.5 mm Pitch)
pins: 1 VCC (power), 2 MIX OUT (out), 3 VCC (power), 4 GND (power), 5 RF IN (in), 6 GND (power), 7 TX VREG (power), 8 VCC (power), 9 GND (power), 10 TX OUT (out), 11 GND (power), 12 VCC (power), 13 GND (power), 14 GND (power), 15 FIN (in), 16 CE (in), 17 VP (power), 18 DO (out), 19 VCC (power), 20 GND (power), 21 OUT0/FLO (io), 22 OUT1/RX PD (io), 23 OUT2/TX PD (io), 24 PLL PD (in), 25 CLK (in), 26 DI (in), 27 LD EN (in), 28 OSCI (in), 29 ~{S FLD} (in), 30 RSSI OUT (out), 31 THR (out), 32 DC CMPEN (in), 33 DISC OUT (out), 34 GND (power), 35 VCC (power), 36 QUAD IN (in), 37 VCC (power), 38 GND (power), 39 LIM OUT (out), 40 GND (power), 41 VCC (power), 42 LIM IN (in), 43 GND (power), 44 GND (power), 45 IF OUT (out), 46 VCC (power), 47 IF IN (in), 48 RX VREG (power)

## TP3401J
designator U?
DASL Digital Adapter for Subscriber Loops; ComponentAvailability: Obsolete; Published: 15-Apr-2002; LatestRevisionDate: 06-Jun-2005; LatestRevisionNote: Stylized 3D Model Added.; DatasheetVersion: Dec-1991; PackageVersion: 2000; PackageReference: J20A; Publisher: Altium Limited; PackageDescription: DIP; 20 Leads; Row Spacing 7.62 mm; Pitch 2.54 mm; Code_JEDEC: MS-015-AE; ComponentLink1Description: Manufacturer Link; ComponentLink1URL: http://www.national.com/; ComponentLink2Description: Datasheet; ComponentLink2URL: http://www.national.com/ds.cgi/TP/TP3401.pdf; ComponentLink3Description: Discontinuation Notice; ComponentLink3URL: http://www.national.com/obs/obsolescence.txt; ComponentLink4Description: URL Link1; ComponentLink4URL: http://www.national.com/pf/TP/TP3401.html
footprint J20A (DIP; 20 Leads; Row Spacing 7.62 mm; Pitch 2.54 mm)
3D model J20A (DIP; 20 Leads; Row Spacing 7.62 mm; Pitch 2.54 mm)
pins: 1 MCLK (in), 2 GND (power), 3 MBS/FSc (io), 4 FSa (io), 5 FSb (io), 6 ~{TS}r/~{LSD} (hiz), 7 BCLK (io), 8 Bx (in), 9 Br (out), 10 ~{INT} (out), 11 CI (in), 12 CO (out), 13 ~{CS} (in), 14 CCLK (in), 15 DCLK/DEN (io), 16 Dr (out), 17 Dx (in), 18 LO (out), 19 LI (in), 20 VCC (power)

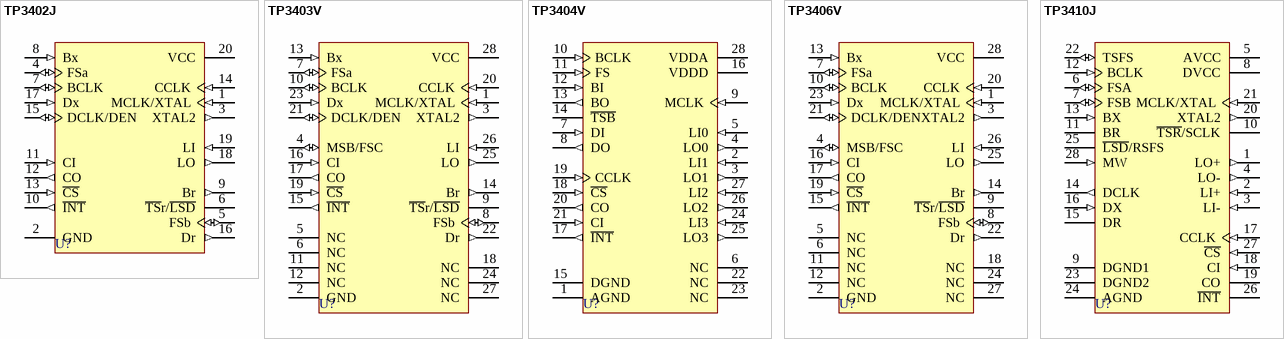
[diagram p1: symbols TP3402J to TP3410J]

## TP3402J
designator U?
DASL Digital Adapter for Subscriber Loops; Published: 15-Apr-2002; LatestRevisionDate: 06-Jun-2005; LatestRevisionNote: Stylized 3D Model Added.; DatasheetVersion: Dec-1991; PackageVersion: 2000; PackageReference: J20A; Publisher: Altium Limited; PackageDescription: DIP; 20 Leads; Row Spacing 7.62 mm; Pitch 2.54 mm; Code_JEDEC: MS-015-AE; ComponentLink1Description: Manufacturer Link; ComponentLink1URL: http://www.national.com/; ComponentLink2Description: Datasheet; ComponentLink2URL: http://www.national.com/ds.cgi/TP/TP3401.pdf; ComponentLink3Description: URL Link1; ComponentLink3URL: http://www.national.com/pf/TP/TP3402.html
footprint J20A (DIP; 20 Leads; Row Spacing 7.62 mm; Pitch 2.54 mm)
3D model J20A (DIP; 20 Leads; Row Spacing 7.62 mm; Pitch 2.54 mm)
pins: 1 MCLK/XTAL (in), 2 GND (power), 3 XTAL2 (out), 4 FSa (io), 5 FSb (io), 6 ~{TS}r/~{LSD} (hiz), 7 BCLK (io), 8 Bx (in), 9 Br (out), 10 ~{INT} (out), 11 CI (in), 12 CO (out), 13 ~{CS} (in), 14 CCLK (in), 15 DCLK/DEN (io), 16 Dr (out), 17 Dx (in), 18 LO (out), 19 LI (in), 20 VCC (power)

## TP3403V
designator U?
DASL Digital Adapter for Subscriber Loops; Published: 15-Apr-2002; LatestRevisionDate: 13-Apr-2006; LatestRevisionNote: IPC-7351 Footprint Added.; DatasheetVersion: Dec-1991; PackageVersion: 2000; PackageReference: V28A; Publisher: Altium Limited; PackageDescription: 28-Pin Leaded Chip Carrier 1.27 mm Pitch; Code_IPC: PLCC-28; ComponentLink1Description: Manufacturer Link; ComponentLink1URL: http://www.national.com/; ComponentLink2Description: Datasheet; ComponentLink2URL: http://www.national.com/ds.cgi/TP/TP3401.pdf; ComponentLink3Description: URL Link1; ComponentLink3URL: http://www.national.com/pf/TP/TP3403.html
footprint V28A_N (Leaded Chip Carrier, 28-Leads, Body 11.5x11.5mm, Pitch 1.27mm, IPC Medium Density)
footprint V28A_L (Leaded Chip Carrier, 28-Leads, Body 11.5x11.5mm, Pitch 1.27mm, IPC High Density)
footprint V28A_M (Leaded Chip Carrier, 28-Leads, Body 11.5x11.5mm, Pitch 1.27mm, IPC Low Density)
3D model TP3403-V28A (28-Pin Leaded Chip Carrier 1.27 mm Pitch)
pins: 1 MCLK/XTAL (in), 2 GND (power), 3 XTAL2 (out), 4 MSB/FSC (io), 5 NC, 6 NC, 7 FSa (io), 8 FSb (io), 9 ~{TS}r/~{LSD} (oc), 10 BCLK (io), 11 NC, 12 NC, 13 Bx (in), 14 Br (out), 15 ~{INT} (out), 16 CI (in), 17 CO (out), 18 NC, 19 ~{CS} (in), 20 CCLK (in), 21 DCLK/DEN (io), 22 Dr (out), 23 Dx (in), 24 NC, 25 LO (out), 26 LI (in), 27 NC, 28 VCC (power)

## TP3404V
designator U?
Quad Digital Adapter for Subscriber Loops; Published: 15-Apr-2002; LatestRevisionDate: 13-Apr-2006; LatestRevisionNote: IPC-7351 Footprint Added.; DatasheetVersion: Jul-1994; PackageVersion: 2000; PackageReference: V28A; Publisher: Altium Limited; PackageDescription: 28-Pin Leaded Chip Carrier 1.27 mm Pitch; Code_IPC: PLCC-28; ComponentLink1Description: Manufacturer Link; ComponentLink1URL: http://www.national.com/; ComponentLink2Description: Datasheet; ComponentLink2URL: http://www.national.com/ds.cgi/TP/TP3404.pdf; ComponentLink3Description: URL Link1; ComponentLink3URL: http://www.national.com/pf/TP/TP3404.html
footprint V28A_N (Leaded Chip Carrier, 28-Leads, Body 11.5x11.5mm, Pitch 1.27mm, IPC Medium Density)
footprint V28A_L (Leaded Chip Carrier, 28-Leads, Body 11.5x11.5mm, Pitch 1.27mm, IPC High Density)
footprint V28A_M (Leaded Chip Carrier, 28-Leads, Body 11.5x11.5mm, Pitch 1.27mm, IPC Low Density)
3D model TP3404-V28A (28-Pin Leaded Chip Carrier 1.27 mm Pitch)
pins: 1 AGND (power), 2 LI1 (in), 3 LO1 (out), 4 LO0 (out), 5 LI0 (in), 6 NC, 7 DI (in), 8 DO (out), 9 MCLK (in), 10 BCLK (in), 11 FS (in), 12 BI (in), 13 BO (out), 14 ~{TSB} (hiz), 15 DGND (power), 16 VDDD (power), 17 ~{INT} (out), 18 ~{CS} (in), 19 CCLK (in), 20 CO (out), 21 CI (in), 22 NC, 23 NC, 24 LI3 (in), 25 LO3 (out), 26 LO2 (out), 27 LI2 (in), 28 VDDA (power)

## TP3406V
designator U?
DASL Digital Adapter for Subscriber Loops; Published: 15-Apr-2002; LatestRevisionDate: 13-Apr-2006; LatestRevisionNote: IPC-7351 Footprint Added.; DatasheetVersion: Nov-1992; PackageVersion: 2000; PackageReference: V28A; Publisher: Altium Limited; PackageDescription: 28-Pin Leaded Chip Carrier 1.27 mm Pitch; Code_IPC: PLCC-28; ComponentLink1Description: Manufacturer Link; ComponentLink1URL: http://www.national.com/; ComponentLink2Description: Datasheet; ComponentLink2URL: http://www.national.com/ds.cgi/TP/TP3406.pdf; ComponentLink3Description: URL Link1; ComponentLink3URL: http://www.national.com/pf/TP/TP3406.html
footprint V28A_N (Leaded Chip Carrier, 28-Leads, Body 11.5x11.5mm, Pitch 1.27mm, IPC Medium Density)
footprint V28A_L (Leaded Chip Carrier, 28-Leads, Body 11.5x11.5mm, Pitch 1.27mm, IPC High Density)
footprint V28A_M (Leaded Chip Carrier, 28-Leads, Body 11.5x11.5mm, Pitch 1.27mm, IPC Low Density)
3D model TP3406-V28A (28-Pin Leaded Chip Carrier 1.27 mm Pitch)
pins: 1 MCLK/XTAL (in), 2 GND (power), 3 XTAL2 (out), 4 MSB/FSC (io), 5 NC, 6 NC, 7 FSa (io), 8 FSb (io), 9 ~{TS}r/~{LSD} (hiz), 10 BCLK (io), 11 NC, 12 NC, 13 Bx (in), 14 Br (out), 15 ~{INT} (out), 16 CI (in), 17 CO (out), 18 NC, 19 ~{CS} (in), 20 CCLK (in), 21 DCLK/DEN (io), 22 Dr (out), 23 Dx (in), 24 NC, 25 LO (out), 26 LI (in), 27 NC, 28 VCC (power)

## TP3410J
designator U?
Echo-Cancelling 2B1Q U Transceiver; Published: 15-Apr-2002; LatestRevisionDate: 06-Jun-2005; LatestRevisionNote: Stylized 3D Model Added.; DatasheetVersion: Sep-1994; PackageVersion: 2000; PackageReference: J28A; Publisher: Altium Limited; PackageDescription: DIP; 28 Leads; Row Spacing 15.24 mm; Pitch 2.54 mm; ComponentLink1Description: Manufacturer Link; ComponentLink1URL: http://www.national.com/; ComponentLink2Description: Datasheet; ComponentLink2URL: http://www.national.com/ds.cgi/TP/TP3410.pdf; ComponentLink3Description: URL Link1; ComponentLink3URL: http://www.national.com/pf/TP/TP3410.html
footprint J28A (DIP; 28 Leads; Row Spacing 15.24 mm; Pitch 2.54 mm)
3D model J28A (DIP; 28 Leads; Row Spacing 15.24 mm; Pitch 2.54 mm)
pins: 1 LO+ (out), 2 LI+ (in), 3 LI- (in), 4 LO- (out), 5 AVCC (power), 6 FSA (io), 7 FSB (io), 8 DVCC (power), 9 DGND1 (power), 10 ~{TSR}/SCLK (oc), 11 BR (hiz), 12 BCLK (in), 13 BX (in), 14 DCLK (out), 15 DR (hiz), 16 DX (in), 17 CCLK (in), 18 CI (in), 19 CO (hiz), 20 XTAL2 (out), 21 MCLK/XTAL (in), 22 TSFS (io), 23 DGND2 (power), 24 AGND (power), 25 ~{LSD}/RSFS (hiz), 26 ~{INT} (hiz), 27 ~{CS} (in), 28 MW (in)